# Altium integrated library Motorola RF and IF Transmitter.IntLib: 4 symbols
Pins are listed as number, name and electrical type; pins without a type are passive.

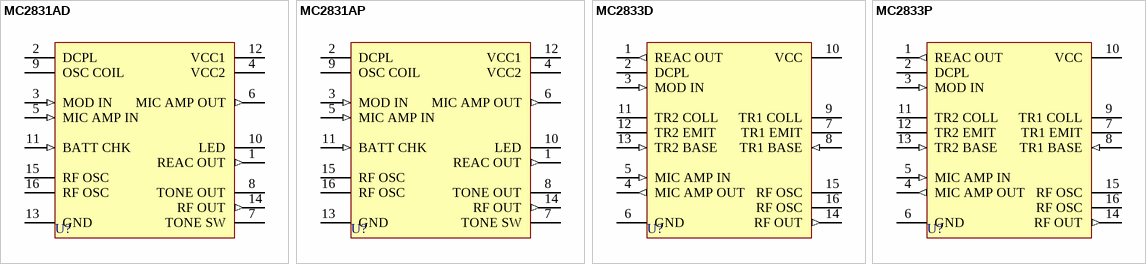
[diagram p0: symbols MC2831AD to MC2833P]

## MC2831AD
designator U?
Low Power FM Transmitter System; Published: 17-Jul-2002; LatestRevisionDate: 13-Apr-2006; LatestRevisionNote: IPC-7351 Footprint Added.; DatasheetVersion: 1988; PackageVersion: 1991; PackageReference: 751B-03; Publisher: Altium Limited; PackageDescription: 16-Pin Small Outline Integrated Circuit 1.27 mm Pitch; Code_JEDEC: MS-012-AC; Code_IPC: SOIC127P600-16; ComponentLink1Description: Manufacturer Link; ComponentLink1URL: http://www.motorola.com/
footprint 751B-03_N (SOIC, 16-Leads, Body 9.9x3.9mm, Pitch 1.27mm, IPC Medium Density)
footprint 751B-03_L (SOIC, 16-Leads, Body 9.9x3.9mm, Pitch 1.27mm, IPC High Density)
footprint 751B-03_M (SOIC, 16-Leads, Body 9.9x3.9mm, Pitch 1.27mm, IPC Low Density)
3D model 751B-03 (16-Pin Small Outline Integrated Circuit 1.27 mm Pitch)
pins: 1 REAC OUT (out), 2 DCPL, 3 MOD IN (in), 4 VCC2 (power), 5 MIC AMP IN (in), 6 MIC AMP OUT (out), 7 TONE SW, 8 TONE OUT (oe), 9 OSC COIL, 10 LED (oc), 11 BATT CHK (in), 12 VCC1 (power), 13 GND (power), 14 RF OUT (out), 15 RF OSC, 16 RF OSC

## MC2831AP
designator U?
Low Power FM Transmitter System; Published: 17-Jul-2002; LatestRevisionDate: 06-Jun-2005; LatestRevisionNote: Stylized 3D Model Added.; DatasheetVersion: 1988; PackageReference: 648-06; Publisher: Altium Limited; PackageDescription: DIP; 16 Leads; Row Spacing 7.62 mm; Pitch 2.54 mm; ComponentLink1Description: Manufacturer Link; ComponentLink1URL: http://www.motorola.com/
footprint 648-06 (DIP; 16 Leads; Row Spacing 7.62 mm; Pitch 2.54 mm)
3D model 648-06 (DIP; 16 Leads; Row Spacing 7.62 mm; Pitch 2.54 mm)
pins: 1 REAC OUT (out), 2 DCPL, 3 MOD IN (in), 4 VCC2 (power), 5 MIC AMP IN (in), 6 MIC AMP OUT (out), 7 TONE SW, 8 TONE OUT (oe), 9 OSC COIL, 10 LED (oc), 11 BATT CHK (in), 12 VCC1 (power), 13 GND (power), 14 RF OUT (out), 15 RF OSC, 16 RF OSC

## MC2833D
designator U?
Low Power FM Transmitter System; Published: 17-Jul-2002; LatestRevisionDate: 13-Apr-2006; LatestRevisionNote: IPC-7351 Footprint Added.; DatasheetVersion: 1988; PackageVersion: 1991; PackageReference: 751B-03; Publisher: Altium Limited; PackageDescription: 16-Pin Small Outline Integrated Circuit 1.27 mm Pitch; Code_JEDEC: MS-012-AC; Code_IPC: SOIC127P600-16; ComponentLink1Description: Manufacturer Link; ComponentLink1URL: http://www.motorola.com/
footprint 751B-03_N (SOIC, 16-Leads, Body 9.9x3.9mm, Pitch 1.27mm, IPC Medium Density)
footprint 751B-03_L (SOIC, 16-Leads, Body 9.9x3.9mm, Pitch 1.27mm, IPC High Density)
footprint 751B-03_M (SOIC, 16-Leads, Body 9.9x3.9mm, Pitch 1.27mm, IPC Low Density)
3D model 751B-03 (16-Pin Small Outline Integrated Circuit 1.27 mm Pitch)
pins: 1 REAC OUT (out), 2 DCPL, 3 MOD IN (in), 4 MIC AMP OUT (out), 5 MIC AMP IN (in), 6 GND (power), 7 TR1 EMIT (oe), 8 TR1 BASE (in), 9 TR1 COLL (oc), 10 VCC (power), 11 TR2 COLL (oc), 12 TR2 EMIT (oe), 13 TR2 BASE (in), 14 RF OUT (out), 15 RF OSC, 16 RF OSC

## MC2833P
designator U?
Low Power FM Transmitter System; Published: 17-Jul-2002; LatestRevisionDate: 06-Jun-2005; LatestRevisionNote: Stylized 3D Model Added.; DatasheetVersion: 1988; PackageReference: 648-06; Publisher: Altium Limited; PackageDescription: DIP; 16 Leads; Row Spacing 7.62 mm; Pitch 2.54 mm; ComponentLink1Description: Manufacturer Link; ComponentLink1URL: http://www.motorola.com/
footprint 648-06 (DIP; 16 Leads; Row Spacing 7.62 mm; Pitch 2.54 mm)
3D model 648-06 (DIP; 16 Leads; Row Spacing 7.62 mm; Pitch 2.54 mm)
pins: 1 REAC OUT (out), 2 DCPL, 3 MOD IN (in), 4 MIC AMP OUT (out), 5 MIC AMP IN (in), 6 GND (power), 7 TR1 EMIT (oe), 8 TR1 BASE (in), 9 TR1 COLL (oc), 10 VCC (power), 11 TR2 COLL (oc), 12 TR2 EMIT (oe), 13 TR2 BASE (in), 14 RF OUT (out), 15 RF OSC, 16 RF OSC